# EAGLE library part TPS7A3001 (library wheat)
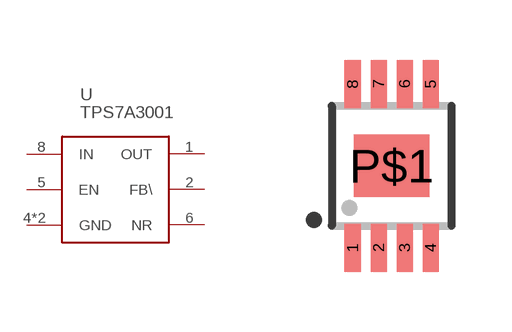
[diagram p242: symbol with the pads of MSOP8EP; footprint MSOP8EP]

Designator prefix U

## TPS7A3001DGN  [MSOP8EP]
1  OUT
2  FB\
4  GND
5  EN
6  NR
8  IN
P$1  GND

## Footprint MSOP8EP (pad centres in mm)
smd 0.4 x 1.2: 1 -0.975,-2.05; 2 -0.325,-2.05; 3 0.325,-2.05; 4 0.975,-2.05; 5 0.975,2.05; 6 0.325,2.05; 7 -0.325,2.05; 8 -0.975,2.05
smd 1.89 x 1.57: P$1 0,0